# Altium schematic symbol library 5-87568-6.SchLib: 1 symbol
Pins are listed as number, name and electrical type; pins without a type are passive.

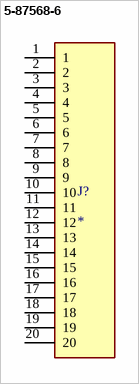
[diagram p0: symbol 5-87568-6]

## 5-87568-6
designator J?
MP: 5-87568-6; MF: {'manufacturer': u'TE Connectivity'}; Availability: Unavailable; Price: None; Package: None; Value: *
footprint TE_5-87568-6
pins: 1, 2, 3, 4, 5, 6, 7, 8, 9, 10, 11, 12, 13, 14, 15, 16, 17, 18, 19, 20